# EAGLE library part AD5206 (library analog-devices)
DIGI-POT
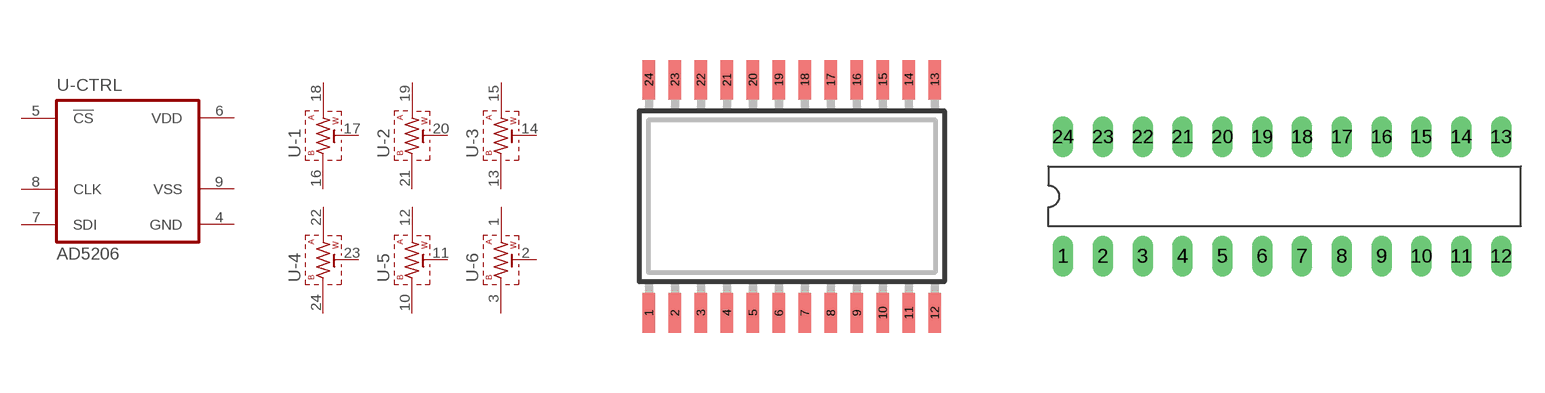
[diagram p38: symbol with the pads of TSSOP24; footprints TSSOP24, DIL24-3]

Designator prefix U; gates -CTRL=AD5206 -1=DIGI-POT -2=DIGI-POT -3=DIGI-POT -6=DIGI-POT -5=DIGI-POT -4=DIGI-POT

## AD5206BRU (P1I: o)  [TSSOP24]
1  -6:A  pas
2  -6:W  pas
3  -6:B  pas
4  -CTRL:GND  pwr
5  -CTRL:!CS!  in
6  -CTRL:VDD  pwr
7  -CTRL:SDI  in
8  -CTRL:CLK  in
9  -CTRL:VSS  pwr
10  -5:B  pas
11  -5:W  pas
12  -5:A  pas
13  -3:B  pas
14  -3:W  pas
15  -3:A  pas
16  -1:B  pas
17  -1:W  pas
18  -1:A  pas
19  -2:A  pas
20  -2:W  pas
21  -2:B  pas
22  -4:A  pas
23  -4:W  pas
24  -4:B  pas

## AD5206BN  [DIL24-3]
Pads as for TSSOP24

## AD5206BR (P1I: o)  [SO24W]
Pads as for TSSOP24

## Footprint TSSOP24 (pad centres in mm)
Thin Shrink Small Outline Plastic 24
smd 0.305 x 0.991: 1 -3.575,-2.918; 2 -2.925,-2.918; 3 -2.275,-2.918; 4 -1.625,-2.918; 5 -0.975,-2.918; 6 -0.325,-2.918; 7 0.325,-2.918; 8 0.975,-2.918; 9 1.625,-2.918; 10 2.275,-2.918; 11 2.925,-2.918; 12 3.575,-2.918; 13 3.575,2.918; 14 2.925,2.918; 15 2.275,2.918; 16 1.625,2.918; 17 0.975,2.918; 18 0.325,2.918; 19 -0.325,2.918; 20 -0.975,2.918; 21 -1.625,2.918; 22 -2.275,2.918; 23 -2.925,2.918; 24 -3.575,2.918

## Footprint DIL24-3 (pad centres in mm)
Dual In Line Package 0.3 inch
drill 0.813 long: 1 -13.97,-3.81; 2 -11.43,-3.81; 3 -8.89,-3.81; 4 -6.35,-3.81; 5 -3.81,-3.81; 6 -1.27,-3.81; 7 1.27,-3.81; 8 3.81,-3.81; 9 6.35,-3.81; 10 8.89,-3.81; 11 11.43,-3.81; 12 13.97,-3.81; 13 13.97,3.81; 14 11.43,3.81; 15 8.89,3.81; 16 6.35,3.81; 17 3.81,3.81; 18 1.27,3.81; 19 -1.27,3.81; 20 -3.81,3.81; 21 -6.35,3.81; 22 -8.89,3.81; 23 -11.43,3.81; 24 -13.97,3.81

## Footprint SO24W (pad centres in mm)
SMALL OUTLINE INTEGRATED CIRCUIT wide body 7.5 mm/JEDEC MO-119AA
smd 0.6 x 2.2: 1 -6.985,-4.6; 2 -5.715,-4.6; 3 -4.445,-4.6; 4 -3.175,-4.6; 5 -1.905,-4.6; 6 -0.635,-4.6; 7 0.635,-4.6; 8 1.905,-4.6; 9 3.175,-4.6; 10 4.445,-4.6; 11 5.715,-4.6; 12 6.985,-4.6; 13 6.985,4.6; 14 5.715,4.6; 15 4.445,4.6; 16 3.175,4.6; 17 1.905,4.6; 18 0.635,4.6; 19 -0.635,4.6; 20 -1.905,4.6; 21 -3.175,4.6; 22 -4.445,4.6; 23 -5.715,4.6; 24 -6.985,4.6